# Altium footprint library SOP.PcbLib: 43 footprints (part 3 of 3)
Each footprint in its own frame and in the unit in brackets; x right, y up, seen from the top. Pads: shape width x height; smd on the part's side, far side on the other; paste and mask are expansions set on the pad; w line width, h text height; cw(c..) or ccw(c..) is an arc to the next point about the centre after c.
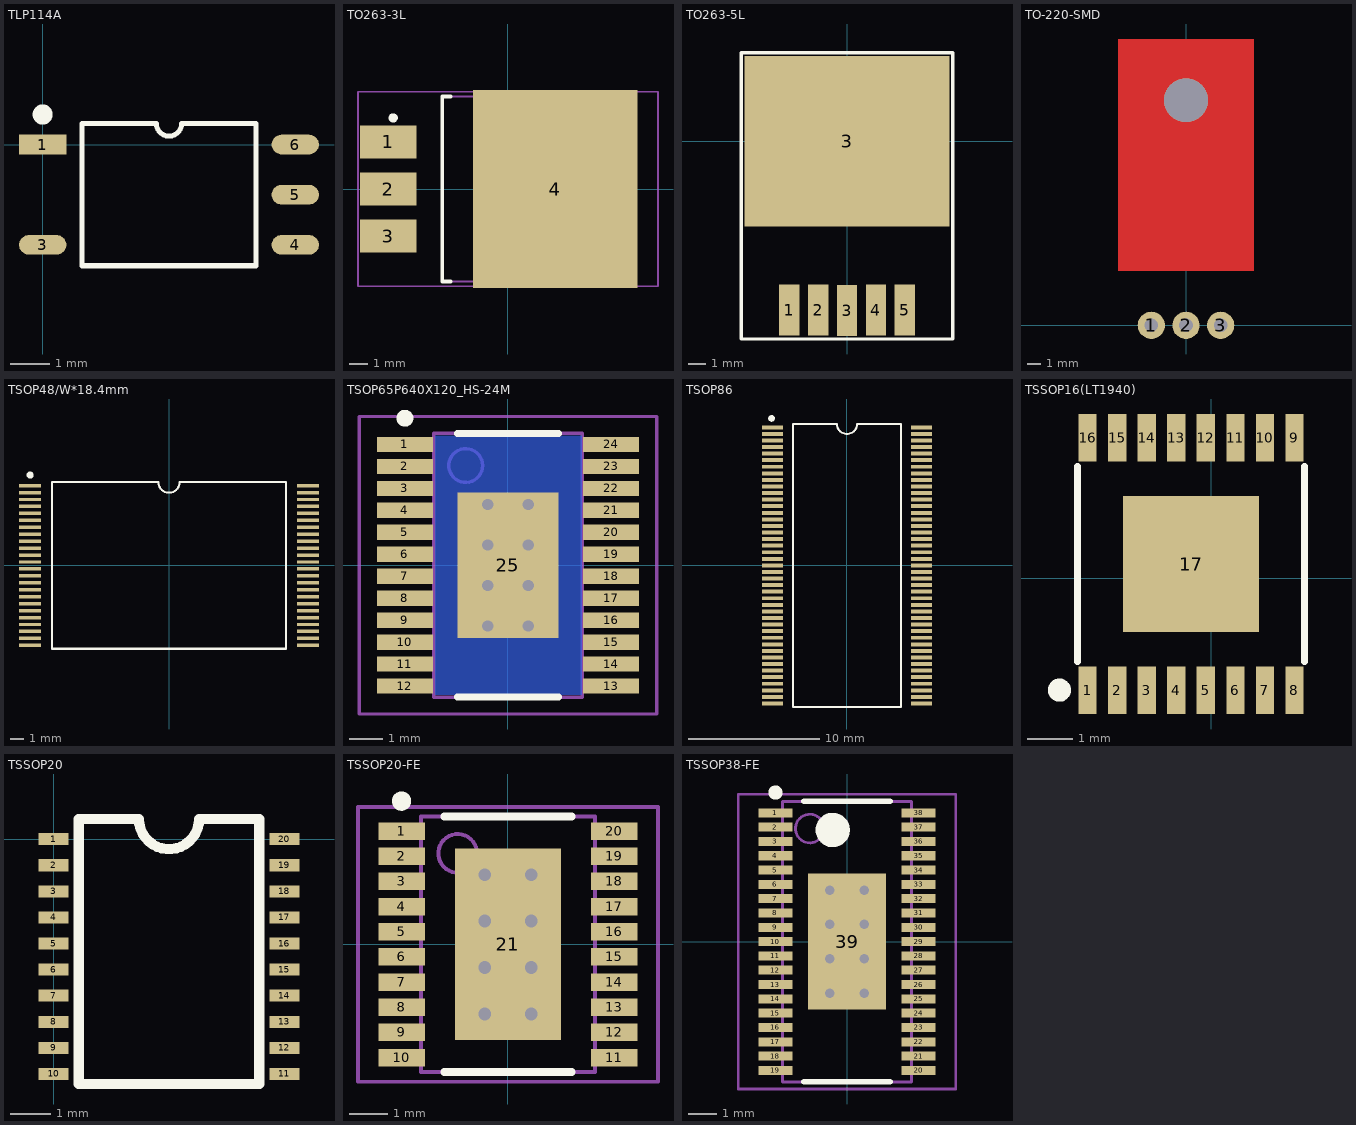
[diagram p2: the footprints below, top view; thin cyan lines are the x and y axes]

## TLP114A [mm] "PHOTOCOUPLER"
height 2.5
pads (5):
  rect 1.2x0.5 smd: 1(0,0)
  oval 1.2x0.5 smd: 3(0,-2.54) 4(6.4,-2.54) 5(6.4,-1.27) 6(6.4,0)
Top Overlay:
  circle w0.254: c0,0.762 r0.127
  lines w0.127: 1,-3.07 5.4,-3.07 5.4,0.53 3.518,0.53 cw(c3.2,0.53) 2.883,0.53 1,0.53 1,-3.07

## TO263-3L [mil] "TO263-3L"
height 180
pads (4):
  rect 120x70 smd: 1(-255,100) 2(-255,0) 3(-255,-100)
  rect 350x420 smd: 4(100.39,0)
Top Overlay:
  circle w9.84: c-244.09,151.18 r4.92
  lines w7.87: -122.05,-196.85 -139.76,-196.85 -139.76,196.85 -122.05,196.85
Mechanical 13:
  lines w3.94: -139.76,-196.85 214.57,-196.85 214.57,196.85 -139.76,196.85 -139.76,-196.85
Mechanical 15:
  lines w3.94: -19.68,0 19.69,0 ; 0,-19.68 0,19.68 ; -318.9,-206.69 318.9,-206.69 318.9,206.69 -318.9,206.69 -318.9,-206.69
3D body: height 180, standoff 3.94, extent -139.76,-196.85 214.57,196.85

## TO263-5L [mm]
pads (6):
  rect 1.2x3 smd: 1(-3.4,-9.9) 2(-1.7,-9.9) 3(0,-9.93) 4(1.7,-9.9) 5(3.4,-9.9)
  rect 12x10 smd: 3(0,0)
Top Overlay:
  lines w0.2: -6.202,-11.6 6.198,-11.6 ; -6.202,5.2 6.198,5.2 ; -6.2,-11.6 -6.2,5.2 ; 6.2,-11.6 6.2,5.2

## TO-220-SMD [mm]
height 4.5
pads (3):
  round 2 hole 1: 1(-2.54,0) 2(0,0) 3(2.54,0)
via 0,16.5 diameter 3.2 hole 3.2
Top Layer:
  rectangle: -5,4 5,21

## TSOP48/W*18.4mm [mm]
pads (48):
  rect 1.6x0.25 smd: 1(-10,5.75) 2(-10,5.25) 3(-10,4.75) 4(-10,4.25) 5(-10,3.75) 6(-10,3.25) 7(-10,2.75) 8(-10,2.25) 9(-10,1.75) 10(-10,1.25) 11(-10,0.75) 12(-10,0.25) 13(-10,-0.25) 14(-10,-0.75) 15(-10,-1.25) 16(-10,-1.75) 17(-10,-2.25) 18(-10,-2.75) 19(-10,-3.25) 20(-10,-3.75) 21(-10,-4.25) 22(-10,-4.75) 23(-10,-5.25) 24(-10,-5.75) 25(10,-5.75) 26(10,-5.25) 27(10,-4.75) 28(10,-4.25) 29(10,-3.75) 30(10,-3.25) 31(10,-2.75) 32(10,-2.25) 33(10,-1.75) 34(10,-1.25) 35(10,-0.75) 36(10,-0.25) 37(10,0.25) 38(10,0.75) 39(10,1.25) 40(10,1.75) 41(10,2.25) 42(10,2.75) 43(10,3.25) 44(10,3.75) 45(10,4.25) 46(10,4.75) 47(10,5.25) 48(10,5.75)
Top Overlay:
  circle w0.254: c-10,6.512 r0.127
  lines w0.152: -8.413,-6 -8.413,6 -0.762,6 ccw(c0,6) 0.762,6 8.413,6 8.413,-6 -8.413,-6

## TSOP65P640X120_HS-24M [mm] "TSOP, 24-Leads, Body 7.8x4.4mm (max), Pitch 0.65mm, IPC Low Density"
height 1.2
pads (25):
  rect 1.65x0.45 smd: 1(-3.05,3.575) 2(-3.05,2.925) 3(-3.05,2.275) 4(-3.05,1.625) 5(-3.05,0.975) 6(-3.05,0.325) 7(-3.05,-0.325) 8(-3.05,-0.975) 9(-3.05,-1.625) 10(-3.05,-2.275) 11(-3.05,-2.925) 12(-3.05,-3.575) 13(3.05,-3.575) 14(3.05,-2.925) 15(3.05,-2.275) 16(3.05,-1.625) 17(3.05,-0.975) 18(3.05,-0.325) 19(3.05,0.325) 20(3.05,0.975) 21(3.05,1.625) 22(3.05,2.275) 23(3.05,2.925) 24(3.05,3.575)
  rect 3x4.3 smd: 25(0,0)
via -0.6,1.8 diameter 0.66 hole 0.33
via 0.6,1.8 diameter 0.66 hole 0.33
via -0.6,0.6 diameter 0.66 hole 0.33
via 0.6,0.6 diameter 0.66 hole 0.33
via -0.6,-0.6 diameter 0.66 hole 0.33
via 0.6,-0.6 diameter 0.66 hole 0.33
via -0.6,-1.8 diameter 0.66 hole 0.33
via 0.6,-1.8 diameter 0.66 hole 0.33
Bottom Layer:
  rectangle: -2.159,-3.835 2.184,3.835
Top Overlay:
  circle w0.25: c-3.05,4.35 r0.125
  lines w0.2: -1.5,-3.9 1.5,-3.9 ; -1.5,3.9 1.5,3.9
Mechanical 13:
  circle w0.1: c-1.25,2.95 r0.5
  lines w0.1: -2.2,-3.9 -2.2,3.9 2.2,3.9 2.2,-3.9 -2.2,-3.9
Mechanical 15:
  lines w0.1: -0.5,0 0.5,0 ; 0,-0.5 0,0.5 ; -4.4,-4.4 -4.4,4.4 4.4,4.4 4.4,-4.4 -4.4,-4.4
3D body: height 1.2, standoff 0.15, extent -2.2,-3.9 2.2,3.9

## TSOP86 [mm]
pads (86):
  rect 1.6x0.3 smd: 1(-5.68,10.5) 2(-5.68,10) 3(-5.68,9.5) 4(-5.68,9) 5(-5.68,8.5) 6(-5.68,8) 7(-5.68,7.5) 8(-5.68,7) 9(-5.68,6.5) 10(-5.68,6) 11(-5.68,5.5) 12(-5.68,5) 13(-5.68,4.5) 14(-5.68,4) 15(-5.68,3.5) 16(-5.68,3) 17(-5.68,2.5) 18(-5.68,2) 19(-5.68,1.5) 20(-5.68,1) 21(-5.68,0.5) 22(-5.68,0) 23(-5.68,-0.5) 24(-5.68,-1) 25(-5.68,-1.5) 26(-5.68,-2) 27(-5.68,-2.5) 28(-5.68,-3) 29(-5.68,-3.5) 30(-5.68,-4) 31(-5.68,-4.5) 32(-5.68,-5) 33(-5.68,-5.5) 34(-5.68,-6) 35(-5.68,-6.5) 36(-5.68,-7) 37(-5.68,-7.5) 38(-5.68,-8) 39(-5.68,-8.5) 40(-5.68,-9) 41(-5.68,-9.5) 42(-5.68,-10) 43(-5.68,-10.5) 44(5.68,-10.5) 45(5.68,-10) 46(5.68,-9.5) 47(5.68,-9) 48(5.68,-8.5) 49(5.68,-8) 50(5.68,-7.5) 51(5.68,-7) 52(5.68,-6.5) 53(5.68,-6) 54(5.68,-5.5) 55(5.68,-5) 56(5.68,-4.5) 57(5.68,-4) 58(5.68,-3.5) 59(5.68,-3) 60(5.68,-2.5) 61(5.68,-2) 62(5.68,-1.5) 63(5.68,-1) 64(5.68,-0.5) 65(5.68,0) 66(5.68,0.5) 67(5.68,1) 68(5.68,1.5) 69(5.68,2) 70(5.68,2.5) 71(5.68,3) 72(5.68,3.5) 73(5.68,4) 74(5.68,4.5) 75(5.68,5) 76(5.68,5.5) 77(5.68,6) 78(5.68,6.5) 79(5.68,7) 80(5.68,7.5) 81(5.68,8) 82(5.68,8.5) 83(5.68,9) 84(5.68,9.5) 85(5.68,10) 86(5.68,10.5)
Top Overlay:
  circle w0.254: c-5.74,11.176 r0.127
  lines w0.152: -4.093,-10.75 4.093,-10.75 4.093,10.75 0.762,10.75 cw(c0,10.75) -0.762,10.75 -4.093,10.75 -4.093,-10.75

## TSSOP16(LT1940) [mm]
pads (17):
  rect 0.4x1.05 smd: 1(-2.718,-2.464) 2(-2.068,-2.464) 3(-1.418,-2.464) 4(-0.768,-2.464) 5(-0.118,-2.464) 6(0.532,-2.464) 7(1.182,-2.464) 8(1.832,-2.464) 9(1.832,3.086) 10(1.182,3.086) 11(0.532,3.086) 12(-0.118,3.086) 13(-0.768,3.086) 14(-1.418,3.086) 15(-2.068,3.086) 16(-2.718,3.086)
  rect 3x3 smd: 17(-0.443,0.311)
Top Overlay:
  circle w0.254: c-3.338,-2.464 r0.127
  lines w0.152: -2.943,-1.839 -2.943,2.461 ; 2.057,-1.839 2.057,2.461

## TSSOP20 [mm]
pads (20):
  rect 0.75x0.3 smd: 1(0,0) 2(0,-0.65) 3(0,-1.3) 4(0,-1.95) 5(0,-2.6) 6(0,-3.25) 7(0,-3.9) 8(0,-4.55) 9(0,-5.2) 10(0,-5.85) 11(5.75,-5.85) 12(5.75,-5.2) 13(5.75,-4.55) 14(5.75,-3.9) 15(5.75,-3.25) 16(5.75,-2.6) 17(5.75,-1.95) 18(5.75,-1.3) 19(5.75,-0.65) 20(5.75,0)
Top Overlay:
  lines w0.254: 0.625,-6.1 5.125,-6.1 5.125,0.5 3.625,0.5 cw(c2.875,0.5) 2.125,0.5 0.625,0.5 0.625,-6.1

## TSSOP20-FE [mm] "LINEAR FE PACKAGE"
height 1.2
pads (21):
  rect 1.2x0.45 smd: 1(-2.75,2.925) 2(-2.75,2.275) 3(-2.75,1.625) 4(-2.75,0.975) 5(-2.75,0.325) 6(-2.75,-0.325) 7(-2.75,-0.975) 8(-2.75,-1.625) 9(-2.75,-2.275) 10(-2.75,-2.925) 11(2.75,-2.925) 12(2.75,-2.275) 13(2.75,-1.625) 14(2.75,-0.975) 15(2.75,-0.325) 16(2.75,0.325) 17(2.75,0.975) 18(2.75,1.625) 19(2.75,2.275) 20(2.75,2.925)
  rect 2.74x4.95 smd: 21(0,0)
via 0.6,-1.8 diameter 0.66 hole 0.33
via -0.6,-1.8 diameter 0.66 hole 0.33
via 0.6,-0.6 diameter 0.66 hole 0.33
via -0.6,-0.6 diameter 0.66 hole 0.33
via 0.6,0.6 diameter 0.66 hole 0.33
via -0.6,0.6 diameter 0.66 hole 0.33
via 0.6,1.8 diameter 0.66 hole 0.33
via -0.6,1.8 diameter 0.66 hole 0.33
Top Overlay:
  circle w0.25: c-2.75,3.7 r0.125
  lines w0.2: -1.65,-3.3 1.65,-3.3 ; -1.65,3.3 1.65,3.3
Mechanical 13:
  circle w0.1: c-1.3,2.35 r0.5
  lines w0.1: -2.25,-3.3 2.25,-3.3 2.25,3.3 -2.25,3.3 -2.25,-3.3
Mechanical 15:
  lines w0.1: -0.5,0 0.5,0 ; 0,-0.5 0,0.5 ; -3.875,-3.55 3.875,-3.55 3.875,3.55 -3.875,3.55 -3.875,-3.55
3D body: height 1.2, standoff 0.2, extent -2.25,-3.3 2.25,3.3

## TSSOP38-FE [mm] "LINEAR BODY WIDTH 4.4MM"
height 1.2
pads (39):
  rect 1.2x0.315 smd: 1(-2.5,4.5) 2(-2.5,4) 3(-2.5,3.5) 4(-2.5,3) 5(-2.5,2.5) 6(-2.5,2) 7(-2.5,1.5) 8(-2.5,1) 9(-2.5,0.5) 10(-2.5,0) 11(-2.5,-0.5) 12(-2.5,-1) 13(-2.5,-1.5) 14(-2.5,-2) 15(-2.5,-2.5) 16(-2.5,-3) 17(-2.5,-3.5) 18(-2.5,-4) 19(-2.5,-4.5) 20(2.5,-4.5) 21(2.5,-4) 22(2.5,-3.5) 23(2.5,-3) 24(2.5,-2.5) 25(2.5,-2) 26(2.5,-1.5) 27(2.5,-1) 28(2.5,-0.5) 29(2.5,0) 30(2.5,0.5) 31(2.5,1) 32(2.5,1.5) 33(2.5,2) 34(2.5,2.5) 35(2.5,3) 36(2.5,3.5) 37(2.5,4) 38(2.5,4.5)
  rect 2.74x4.75 smd: 39(0,0)
via -0.6,1.8 diameter 0.66 hole 0.33
via 0.6,1.8 diameter 0.66 hole 0.33
via -0.6,0.6 diameter 0.66 hole 0.33
via 0.6,0.6 diameter 0.66 hole 0.33
via -0.6,-0.6 diameter 0.66 hole 0.33
via 0.6,-0.6 diameter 0.66 hole 0.33
via -0.6,-1.8 diameter 0.66 hole 0.33
via 0.6,-1.8 diameter 0.66 hole 0.33
Top Overlay:
  circle w0.25: c-2.5,5.208 r0.125
  circle w0.6: c-0.5,3.9 r0.3
  lines w0.2: -1.5,-4.9 1.5,-4.9 ; -1.5,4.9 1.5,4.9
Mechanical 13:
  circle w0.1: c-1.3,3.95 r0.5
  lines w0.1: -2.25,-4.9 -2.25,4.9 2.25,4.9 2.25,-4.9 -2.25,-4.9
Mechanical 15:
  lines w0.1: -0.5,0 0.5,0 ; 0,-0.5 0,0.5 ; -3.8,-5.15 -3.8,5.15 3.8,5.15 3.8,-5.15 -3.8,-5.15
3D body: height 1.2, standoff 0.1, extent -2.25,-4.9 2.25,4.9